# EAGLE library part ST232 (library st232_gaui)
RS232 TRANSEIVER
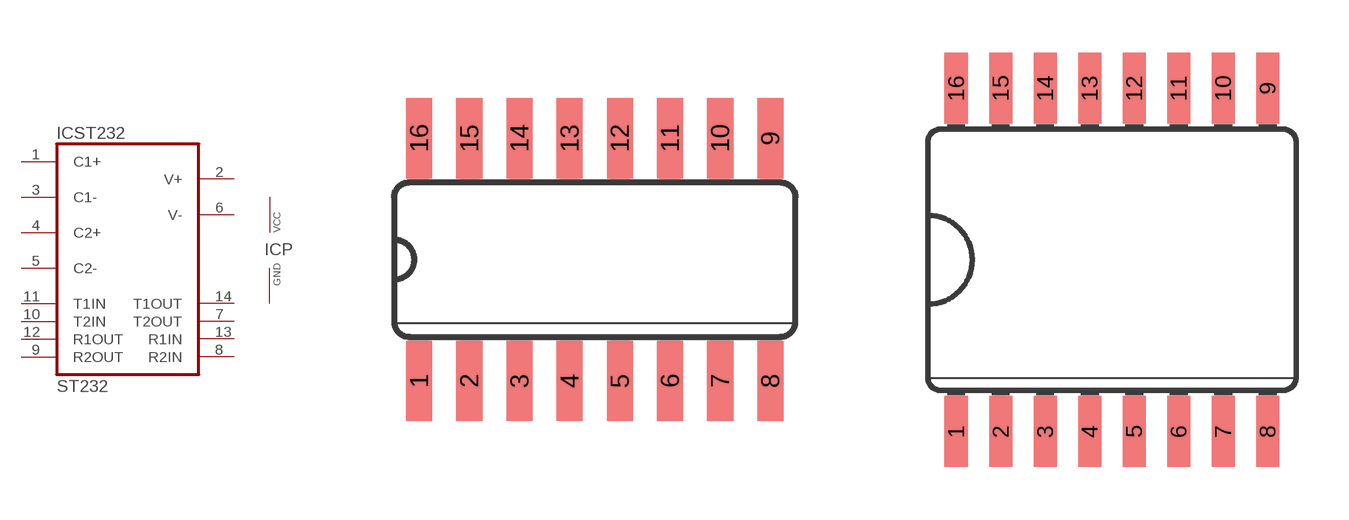
[diagram p0: symbol with the pads of SO16; footprints SO16, SO16L]

Designator prefix IC; gates ST232=MAX232 P=VCC-GND

## ST232D  [SO16]
1  ST232:C1+
2  ST232:V+
3  ST232:C1-
4  ST232:C2+
5  ST232:C2-
6  ST232:V-
7  ST232:T2OUT  out
8  ST232:R2IN  in
9  ST232:R2OUT  out
10  ST232:T2IN  in
11  ST232:T1IN  in
12  ST232:R1OUT  out
13  ST232:R1IN  in
14  ST232:T1OUT  out
15  P:GND  pwr
16  P:VCC  pwr

## ST232W  [SO16L]
Pads as for SO16

## Footprint SO16 (pad centres in mm)
Small Outline Package .150 SIOC Source: http://www.maxim-ic.com/package_drawings/21-0041B.pdf
smd 0.66 x 2.032: 1 -4.445,-3.073; 2 -3.175,-3.073; 3 -1.905,-3.073; 4 -0.635,-3.073; 5 0.635,-3.073; 6 1.905,-3.073; 7 3.175,-3.073; 8 4.445,-3.073; 9 4.445,3.073; 10 3.175,3.073; 11 1.905,3.073; 12 0.635,3.073; 13 -0.635,3.073; 14 -1.905,3.073; 15 -3.175,3.073; 16 -4.445,3.073

## Footprint SO16L (pad centres in mm)
Small Outline Package .300 SIOC Source: http://www.maxim-ic.com/cgi-bin/packages?pkg=16%2FSOIC%2E300&Type=Max
smd 0.66 x 2.032: 1 -4.445,-4.902; 2 -3.175,-4.902; 3 -1.905,-4.902; 4 -0.635,-4.902; 5 0.635,-4.902; 6 1.905,-4.902; 7 3.175,-4.902; 8 4.445,-4.902; 9 4.445,4.902; 10 3.175,4.902; 11 1.905,4.902; 12 0.635,4.902; 13 -0.635,4.902; 14 -1.905,4.902; 15 -3.175,4.902; 16 -4.445,4.902